# EAGLE library part DM9008 (library davicom)
ISA/Plug & Play Super Ethernet Contoller Source: http://www.davicom.com.tw .. DM9008-DS-F02-930914.pdf ATTENTION: PAD 5 double definition in data sheet! SA6 & LILED LILED = pad 55
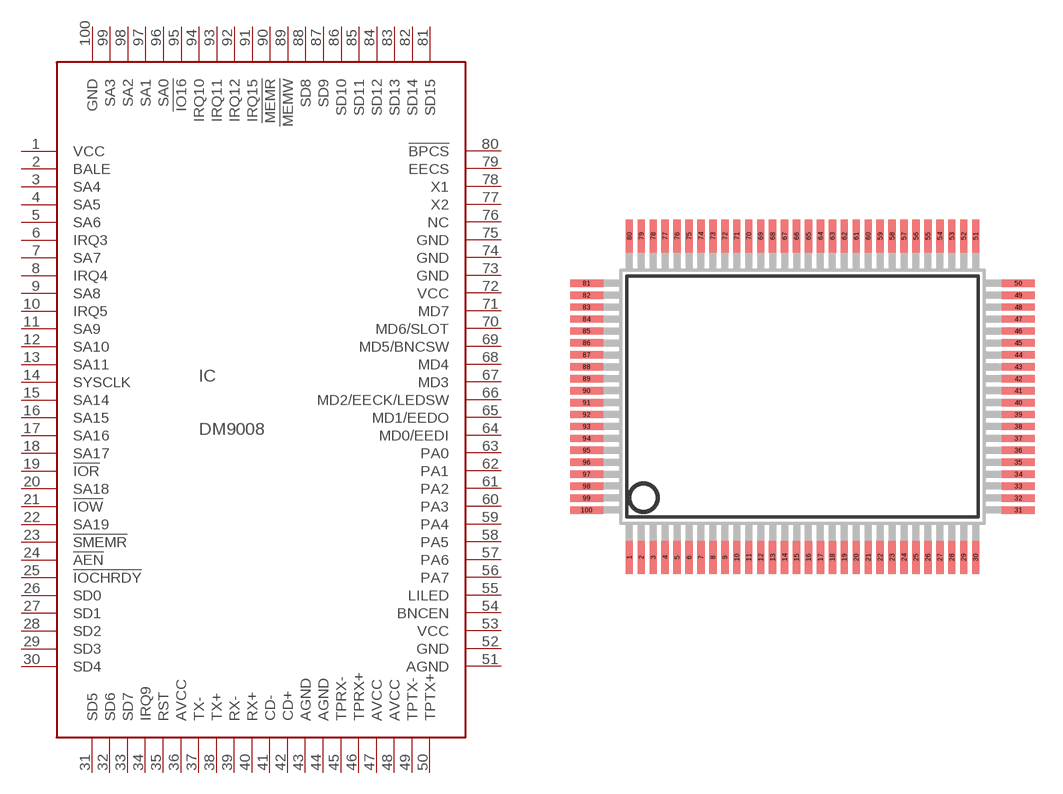
[diagram p0: symbol with the pads of QF100L-20X14; footprint QF100L-20X14]

Designator prefix IC

## DM9008 (OC_FARNELL: unknown; OC_NEWARK: unknown)  [QF100L-20X14]
1  VCC  pwr
2  BALE  in
3  SA4  in
4  SA5  in
5  SA6  in
6  IRQ3  hiz
7  SA7  in
8  IRQ4  hiz
9  SA8  in
10  IRQ5  hiz
11  SA9  in
12  SA10  in
13  SA11  in
14  SYSCLK  in
15  SA14  in
16  SA15  in
17  SA16  in
18  SA17  in
19  !IOR  in
20  SA18  in
21  !IOW  in
22  SA19  in
23  !SMEMR  in
24  !AEN  in
25  !IOCHRDY  hiz
26  SD0  hiz
27  SD1  hiz
28  SD2  hiz
29  SD3  hiz
30  SD4  hiz
31  SD5  hiz
32  SD6  hiz
33  SD7  hiz
34  IRQ9  hiz
35  RST  in
36  AVCC  pwr
37  TX-  out
38  TX+  out
39  RX-  in
40  RX+  in
41  CD-  in
42  CD+  in
43  AGND  pwr
44  AGND  pwr
45  TPRX-  in
46  TPRX+  in
47  AVCC  pwr
48  AVCC  pwr
49  TPTX-  out
50  TPTX+  out
51  AGND  pwr
52  GND  pwr
53  VCC  pwr
54  BNCEN  out
55  LILED  oc
56  PA7  out
57  PA6  out
58  PA5  out
59  PA4  out
60  PA3  out
61  PA2  out
62  PA1  out
63  PA0  out
64  MD0/EEDI  hiz
65  MD1/EEDO  hiz
66  MD2/EECK/LEDSW  hiz
67  MD3  hiz
68  MD4  hiz
69  MD5/BNCSW  hiz
70  MD6/SLOT  hiz
71  MD7  hiz
72  VCC  pwr
73  GND  pwr
74  GND  pwr
75  GND  pwr
76  NC  nc
77  X2  in
78  X1  out
79  EECS  out
80  !BPCS  out
81  SD15  hiz
82  SD14  hiz
83  SD13  hiz
84  SD12  hiz
85  SD11  hiz
86  SD10  hiz
87  SD9  hiz
88  SD8  hiz
89  !MEMW  in
90  !MEMR  in
91  IRQ15  hiz
92  IRQ12  hiz
93  IRQ11  hiz
94  IRQ10  hiz
95  !IO16  hiz
96  SA0  in
97  SA1  in
98  SA2  in
99  SA3  in
100  GND  pwr

## Footprint QF100L-20X14 (pad centres in mm)
QFP 100L
smd 0.4 x 1.8: 1 -9.425,-8.75; 2 -8.775,-8.75; 3 -8.125,-8.75; 4 -7.475,-8.75; 5 -6.825,-8.75; 6 -6.175,-8.75; 7 -5.525,-8.75; 8 -4.875,-8.75; 9 -4.225,-8.75; 10 -3.575,-8.75; 11 -2.925,-8.75; 12 -2.275,-8.75; 13 -1.625,-8.75; 14 -0.975,-8.75; 15 -0.325,-8.75; 16 0.325,-8.75; 17 0.975,-8.75; 18 1.625,-8.75; 19 2.275,-8.75; 20 2.925,-8.75; 21 3.575,-8.75; 22 4.225,-8.75; 23 4.875,-8.75; 24 5.525,-8.75; 25 6.175,-8.75; 26 6.825,-8.75; 27 7.475,-8.75; 28 8.125,-8.75; 29 8.775,-8.75; 30 9.425,-8.75; 51 9.425,8.75; 52 8.775,8.75; 53 8.125,8.75; 54 7.475,8.75; 55 6.825,8.75; 56 6.175,8.75; 57 5.525,8.75; 58 4.875,8.75; 59 4.225,8.75; 60 3.575,8.75; 61 2.925,8.75; 62 2.275,8.75; 63 1.625,8.75; 64 0.975,8.75; 65 0.325,8.75; 66 -0.325,8.75; 67 -0.975,8.75; 68 -1.625,8.75; 69 -2.275,8.75; 70 -2.925,8.75; 71 -3.575,8.75; 72 -4.225,8.75; 73 -4.875,8.75; 74 -5.525,8.75; 75 -6.175,8.75; 76 -6.825,8.75; 77 -7.475,8.75; 78 -8.125,8.75; 79 -8.775,8.75; 80 -9.425,8.75
smd 1.8 x 0.4: 31 11.75,-6.175; 32 11.75,-5.525; 33 11.75,-4.875; 34 11.75,-4.225; 35 11.75,-3.575; 36 11.75,-2.925; 37 11.75,-2.275; 38 11.75,-1.625; 39 11.75,-0.975; 40 11.75,-0.325; 41 11.75,0.325; 42 11.75,0.975; 43 11.75,1.625; 44 11.75,2.275; 45 11.75,2.925; 46 11.75,3.575; 47 11.75,4.225; 48 11.75,4.875; 49 11.75,5.525; 50 11.75,6.175; 81 -11.75,6.175; 82 -11.75,5.525; 83 -11.75,4.875; 84 -11.75,4.225; 85 -11.75,3.575; 86 -11.75,2.925; 87 -11.75,2.275; 88 -11.75,1.625; 89 -11.75,0.975; 90 -11.75,0.325; 91 -11.75,-0.325; 92 -11.75,-0.975; 93 -11.75,-1.625; 94 -11.75,-2.275; 95 -11.75,-2.925; 96 -11.75,-3.575; 97 -11.75,-4.225; 98 -11.75,-4.875; 99 -11.75,-5.525; 100 -11.75,-6.175